# EAGLE library part RM84 (library cTechnologies_relays)
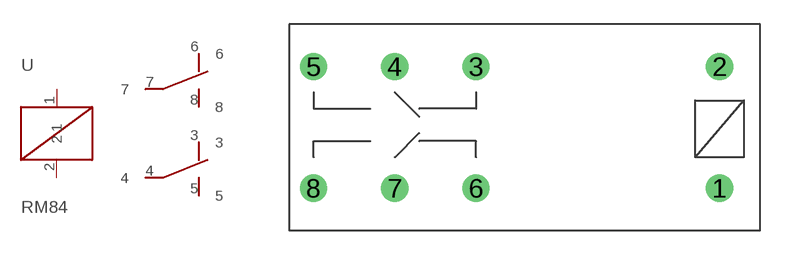
[diagram p0: symbol with the pads of RM84; footprint RM84]

Designator prefix -

## RM84-P-12V (OC_TME: RM84-P-12V)  [RM84]
1  1
2  2
3  3
4  4
5  5
6  6
7  7
8  8

## Footprint RM84 (pad centres in mm)
drill 1.1 pad 1.676: 1 11.26,-3.75; 2 11.26,3.75; 3 -3.74,3.75; 4 -8.74,3.75; 5 -13.74,3.75; 6 -3.74,-3.75; 7 -8.74,-3.75; 8 -13.74,-3.75